# Altium integrated library AhalTech BMS.IntLib: 45 symbols (part 2 of 4)
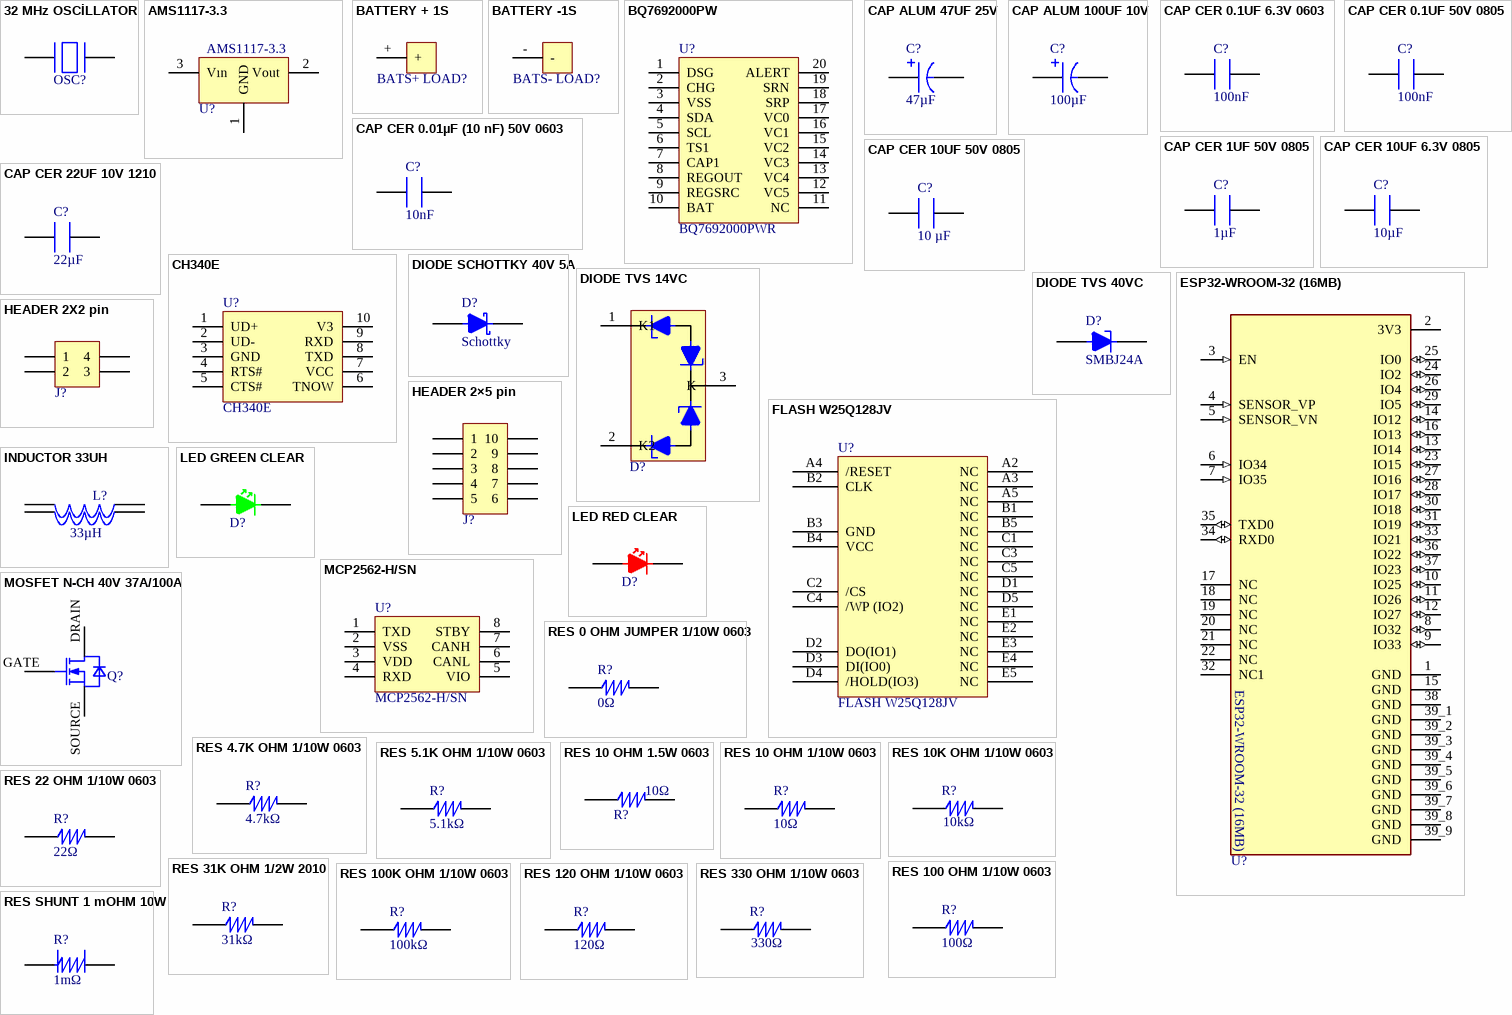
[diagram p2: symbols 32 MHz OSCİLLATOR to RES SHUNT 1 mOHM 10W]

## DIODE TVS 40VC
designator D?, comment SMBJ24A
TVS Diode, SMBJ, Unidirectional, 24 V, 38.9 V, DO-214AA (SMB), 2 Pins; Manufacturer: Bourns; Breakdown Voltage: 28.1V; Clamping Voltage: 38.9V; Element Configuration: Single; ESD Protection: Yes; Leakage Current: 5µA; Max Breakdown Voltage: 29.5V; Max Junction Temperature (Tj): 150°C; Max Power Dissipation: 5W; Max Surge Current: 100A; Min Breakdown Voltage: 26.7V; Number of Channels: 1; Peak Pulse Current: 15.5A; Peak Pulse Power: 600W; Power Line Protection: No; Reverse Standoff Voltage: 24V; Test Current: 1mA; Supplier: Farnell; Supplier Part Number: 1899465; RoHS: Compliant; Category: TVS Diodes; Stock: 35659; Pricing: 5=0,345, 10=0,226, 100=0,11, 500=0,108, 1000=0,103, 5000=0,083 (EUR); Case/Package: SMB; China RoHS: Non-Compliant; Composition: Zener; Direction: Unidirectional; Height: 2.44mm; Length: 4.57mm; Lifecycle Status: Production; Max Operating Temperature: 150°C; Max Reverse Leakage Current: 5µA; Min Operating Temperature: -55°C; Mounting Technology: Surface Mount; Number of Elements: 1; Pins: 2; Number of Terminals: 2; Number of Unidirectional Channels: 1; Packaging: Tape & Reel; Polarity: Unidirectional; Radiation Hardening: No; REACH SVHC: No; Reverse Breakdown Voltage: 26.7V; Schedule B: 8541100080; Termination: SMD/SMT; Width: 3.94mm; ComponentLink1URL: https://datasheet.octopart.com:443/SMBJ24A-Bourns-datasheet-179980059.pdf?src-supplier=TME; ComponentLink1Description: https://datasheet.octopart.com:443/SMBJ24A-Bourns-datasheet-179980059.pdf?src-supplier=TME; ComponentLink2URL: https://datasheet.octopart.com:443/SMBJ24A-Bourns-datasheet-12567566.pdf?src-supplier=Burklin+Elektronik; ComponentLink2Description: https://datasheet.octopart.com:443/SMBJ24A-Bourns-datasheet-12567566.pdf?src-supplier=Burklin+Elektronik; ComponentLink3URL: https://datasheet.octopart.com:443/SMBJ24A-Bourns-datasheet-165058450.pdf?src-supplier=Burklin+Elektronik; ComponentLink3Description: https://datasheet.octopart.com:443/SMBJ24A-Bourns-datasheet-165058450.pdf?src-supplier=Burklin+Elektronik; ComponentLink4URL: https://datasheet.octopart.com:443/SMBJ24A-Bourns-datasheet-94099898.pdf?src-supplier=Farnell; ComponentLink4Description: https://datasheet.octopart.com:443/SMBJ24A-Bourns-datasheet-94099898.pdf?src-supplier=Farnell; ComponentLink5URL: https://datasheet.octopart.com:443/SMBJ24A-Bourns-datasheet-34433208.pdf?src-supplier=Newark; ComponentLink5Description: https://datasheet.octopart.com:443/SMBJ24A-Bourns-datasheet-34433208.pdf?src-supplier=Newark; ComponentLink6URL: https://datasheet.octopart.com:443/SMBJ24A-Bourns-datasheet-154729896.pdf?src-supplier=Electro+Sonic; ComponentLink6Description: https://datasheet.octopart.com:443/SMBJ24A-Bourns-datasheet-154729896.pdf?src-supplier=Electro+Sonic; ComponentLink7URL: https://datasheet.octopart.com:443/SMBJ24A-Bourns-datasheet-42429174.pdf?src-supplier=RS+(Formerly+Allied+Electronics); ComponentLink7Description: https://datasheet.octopart.com:443/SMBJ24A-Bourns-datasheet-42429174.pdf?src-supplier=RS+(Formerly+Allied+Electronics); ComponentLink8URL: https://datasheet.octopart.com:443/SMBJ24A-Bourns-datasheet-10292148.pdf?src-supplier=element14; ComponentLink8Description: https://datasheet.octopart.com:443/SMBJ24A-Bourns-datasheet-10292148.pdf?src-supplier=element14; ComponentLink9URL: https://datasheet.octopart.com:443/SMBJ24A-Bourns-datasheet-14047909.pdf?src-supplier=iiiC; ComponentLink9Description: https://datasheet.octopart.com:443/SMBJ24A-Bourns-datasheet-14047909.pdf?src-supplier=iiiC; ComponentLink10URL: http://sigma.octopart.com:80/conflict_mineral_statement/Bourns-company-36.pdf?src-supplier=Compliance+Statements; ComponentLink10Description: http://sigma.octopart.com:80/conflict_mineral_statement/Bourns-company-36.pdf?src-supplier=Compliance+Statements; Manufacturer Part Number: SMBJ24A
footprint SMBJ24A
pins: 1, 2

## ESP32-WROOM-32 (16MB)
designator U?  (value not drawn)
Bluetooth, WiFi 802.11b/g/n, Bluetooth v4.2 +EDR, Class 1, 2 and 3 Transceiver Module 2.4GHz ~ 2.5GHz Integrated, Chip Surface Mount; Manufacturer: Espressif Systems; Manufacturer Part Number: ESP32-WROOM-32E-N4; Max Supply Voltage: 3.6V; Min Supply Voltage: 3V; Operating Supply Voltage: 3.3V; Supplier: Mouser; Supplier Part Number: 356-ESP32WRM32E132PH; RoHS: Compliant; Category: System on Chip (SoC); Stock: 37962; Pricing: 1=5,59, 1=4,81, 10=5, 10=4,3, 25=3,41, 50=3,96, 100=3,82, 100=3,29, 250=3,17, 650=2,85, 1000=3,31, 1300=2,71, 1950=2,58, 10000=3 (USD); Height - Seated (Max): 3.25mm; Length: 25.5mm; Max Operating Temperature: 85°C; Min Operating Temperature: -40°C; Number of Terminals: 38; Terminal Pitch: 1.27mm; Width: 18mm; ComponentLink1URL: https://datasheet.octopart.com:443/ESP32-WROOM-32E-N4-Espressif-Systems-datasheet-182247776.pdf?src-supplier=IHS; ComponentLink1Description: https://datasheet.octopart.com:443/ESP32-WROOM-32E-N4-Espressif-Systems-datasheet-182247776.pdf?src-supplier=IHS; ComponentLink2URL: https://datasheet.octopart.com:443/ESP32-WROOM-32E-N4-Espressif-Systems-datasheet-188867343.pdf?src-supplier=TME; ComponentLink2Description: https://datasheet.octopart.com:443/ESP32-WROOM-32E-N4-Espressif-Systems-datasheet-188867343.pdf?src-supplier=TME; ComponentLink3URL: https://datasheet.octopart.com:443/ESP32-WROOM-32E-N4-Espressif-Systems-datasheet-165560559.pdf?src-supplier=TME; ComponentLink3Description: https://datasheet.octopart.com:443/ESP32-WROOM-32E-N4-Espressif-Systems-datasheet-165560559.pdf?src-supplier=TME; ComponentLink4URL: https://datasheet.octopart.com:443/ESP32-WROOM-32E-N4-Espressif-Systems-datasheet-151884363.pdf?src-supplier=Future+Electronics; ComponentLink4Description: https://datasheet.octopart.com:443/ESP32-WROOM-32E-N4-Espressif-Systems-datasheet-151884363.pdf?src-supplier=Future+Electronics
footprint ESP32-WROOM-32 (16MB)
pins: 1 GND (power), 2 3V3 (power), 3 EN (in), 4 SENSOR_VP (in), 5 SENSOR_VN (in), 6 IO34 (in), 7 IO35 (in), 8 IO32 (io), 9 IO33 (io), 10 IO25 (io), 11 IO26 (io), 12 IO27 (io), 13 IO14 (io), 14 IO12 (io), 15 GND (power), 16 IO13 (io), 17 NC, 18 NC, 19 NC, 20 NC, 21 NC, 22 NC, 23 IO15 (io), 24 IO2 (io), 25 IO0 (io), 26 IO4 (io), 27 IO16 (io), 28 IO17 (io), 29 IO5 (io), 30 IO18 (io), 31 IO19 (io), 32 NC1, 33 IO21 (io), 34 RXD0 (io), 35 TXD0 (io), 36 IO22 (io), 37 IO23 (io), 38 GND (power), 39_1 GND (power), 39_2 GND (power), 39_3 GND (power), 39_4 GND (power), 39_5 GND (power), 39_6 GND (power), 39_7 GND (power), 39_8 GND (power), 39_9 GND (power)

## FLASH W25Q128JV
designator U?, comment Base Product Number: FLASH W25Q128JV  (hidden comment: W25Q128JVBJM)
FLASH - NOR Memory IC 128Mbit SPI - Quad I/O, QPI, DTR 133 MHz 24-TFBGA (6x8); Memory Type: Non-Volatile; Memory Organization: 16M x 8; Clock Frequency: 133 MHz; Write Cycle Time - Word, Page: 3ms; Voltage - Supply: 2.7V ~ 3.6V; Memory Format: FLASH; Technology: FLASH - NOR; Memory Size: 128Mbit; Memory Interface: SPI - Quad I/O, QPI, DTR; Operating Temperature: -40°C ~ 105°C (TA); Mounting Type: Surface Mount; Package / Case: 24-TBGA; ComponentLink1Description: Datasheet; ComponentLink1URL: https://www.winbond.com/resource-files/w25q128jv_dtr%20revc%2003272018%20plus.pdf; ComponentLink2Description: Supplier Link; ComponentLink2URL: https://www.digikey.com/en/products/detail/winbond-electronics/w25q128jvbjm/9169933
footprint 24-TFBGA (6x8)
pins: A2 NC, A3 NC, A4 /RESET, A5 NC, B1 NC, B2 CLK, B3 GND, B4 VCC, B5 NC, C1 NC, C2 /CS, C3 NC, C4 /WP (IO2), C5 NC, D1 NC, D2 DO(IO1), D3 DI(IO0), D4 /HOLD(IO3), D5 NC, E1 NC, E2 NC, E3 NC, E4 NC, E5 NC

## HEADER 2X2 pin
designator J?, comment TD-102-T-A  (value not drawn)
CONN HEADER VERT 4POS 2.54MM; Manufacturer: Samtec; Manufacturer Lifecycle Status: PRODUCTION; Number of Contacts: 4; Supplier: Farnell; Supplier Part Number: 3687780; Manufacturer Part Number: TD-102-T-A; RoHS: Compliant; Category: Headers and Wire Housings; Pricing: 100=0,565 (EUR); Color: Black; Contact Material: Brass; Contact Mating Length: 4.2164mm; Contact Plating: Tin; Height: 2.54mm; Housing Color: Black; Housing Material: Plastic; Lead Free: Lead Free; Length: 5.08mm; Lifecycle Status: Production; Mounting Technology: Through Hole; Number of Positions: 4; Number of Rows: 2; Packaging: Bulk; Pitch: 2.54mm; Radiation Hardening: No; REACH SVHC: No; Row Spacing: 2.54mm; Termination: Solder; Width: 5.08mm; ComponentLink1URL: https://datasheet.octopart.com:443/TD-102-T-A-Samtec-datasheet-97310231.pdf?src-supplier=Samtec; ComponentLink1Description: https://datasheet.octopart.com:443/TD-102-T-A-Samtec-datasheet-97310231.pdf?src-supplier=Samtec; ComponentLink2URL: https://datasheet.octopart.com:443/TD-102-T-A-Samtec-datasheet-150856305.pdf?src-supplier=Sager+Electronics; ComponentLink2Description: https://datasheet.octopart.com:443/TD-102-T-A-Samtec-datasheet-150856305.pdf?src-supplier=Sager+Electronics; ComponentLink3URL: https://datasheet.octopart.com:443/TD-102-T-A-Samtec-datasheet-129019458.pdf?src-supplier=Sager+Electronics; ComponentLink3Description: https://datasheet.octopart.com:443/TD-102-T-A-Samtec-datasheet-129019458.pdf?src-supplier=Sager+Electronics; ComponentLink4URL: https://datasheet.octopart.com:443/TD-102-T-A-Samtec-datasheet-179090728.pdf?src-supplier=Sager+Electronics; ComponentLink4Description: https://datasheet.octopart.com:443/TD-102-T-A-Samtec-datasheet-179090728.pdf?src-supplier=Sager+Electronics; ComponentLink5URL: https://datasheet.octopart.com:443/TD-102-T-A-Samtec-datasheet-41643126.pdf?src-supplier=Farnell; ComponentLink5Description: https://datasheet.octopart.com:443/TD-102-T-A-Samtec-datasheet-41643126.pdf?src-supplier=Farnell; ComponentLink6URL: https://datasheet.octopart.com:443/TD-102-T-A-Samtec-datasheet-37173861.pdf?src-supplier=Farnell; ComponentLink6Description: https://datasheet.octopart.com:443/TD-102-T-A-Samtec-datasheet-37173861.pdf?src-supplier=Farnell; ComponentLink7URL: https://datasheet.octopart.com:443/TD-102-T-A-Samtec-datasheet-8466599.pdf?src-supplier=Farnell; ComponentLink7Description: https://datasheet.octopart.com:443/TD-102-T-A-Samtec-datasheet-8466599.pdf?src-supplier=Farnell; ComponentLink8URL: https://datasheet.octopart.com:443/TD-102-T-A-Samtec-datasheet-21214653.pdf?src-supplier=Newark; ComponentLink8Description: https://datasheet.octopart.com:443/TD-102-T-A-Samtec-datasheet-21214653.pdf?src-supplier=Newark
footprint TD-102-T-A
pins: 01 1, 02 2, 03 3, 04 4

## HEADER 2×5 pin
designator J?, comment TD-105-T-A  (value not drawn)
Pin Header, Precision Machined Terminal, Board-to-Board, 2.54 mm, 2 Rows, 10 Contacts, Through Hole; Manufacturer: Samtec; Manufacturer Lifecycle Status: PRODUCTION; Connector Type: Socket; Gender: Receptacle; Number of Contacts: 10; Pitch: 2.54mm; Supplier: Arrow Electronics; Supplier Part Number: TD-105-T-A; Manufacturer Part Number: TD-105-T-A; RoHS: Compliant; Category: Headers and Wire Housings; Pricing: 1=1,88, 50=1,46, 100=1,18, 500=1, 1000=0,79, 2000=0,73, 5000=0,59, 10000=0,45 (USD); Color: Black; Contact Material: Brass; Contact Mating Length: 4.2164mm; Contact Plating: Tin; Height: 2.54mm; Housing Color: Black; Housing Material: Plastic; Lead Free: Lead Free; Length: 12.7mm; Lifecycle Status: Production; Mounting Technology: Through Hole; Number of Positions: 10; Number of Rows: 2; Packaging: Bulk; Radiation Hardening: No; REACH SVHC: No; Row Spacing: 2.54mm; Termination: Solder; Width: 5.08mm; ComponentLink1URL: https://datasheet.octopart.com:443/TD-105-T-A-Samtec-datasheet-97310231.pdf?src-supplier=Sager+Electronics; ComponentLink1Description: https://datasheet.octopart.com:443/TD-105-T-A-Samtec-datasheet-97310231.pdf?src-supplier=Sager+Electronics; ComponentLink2URL: https://datasheet.octopart.com:443/TD-105-T-A-Samtec-datasheet-150856305.pdf?src-supplier=Sager+Electronics; ComponentLink2Description: https://datasheet.octopart.com:443/TD-105-T-A-Samtec-datasheet-150856305.pdf?src-supplier=Sager+Electronics; ComponentLink3URL: https://datasheet.octopart.com:443/TD-105-T-A-Samtec-datasheet-179090728.pdf?src-supplier=Sager+Electronics; ComponentLink3Description: https://datasheet.octopart.com:443/TD-105-T-A-Samtec-datasheet-179090728.pdf?src-supplier=Sager+Electronics; ComponentLink4URL: https://datasheet.octopart.com:443/TD-105-T-A-Samtec-datasheet-129019458.pdf?src-supplier=Electro+Sonic; ComponentLink4Description: https://datasheet.octopart.com:443/TD-105-T-A-Samtec-datasheet-129019458.pdf?src-supplier=Electro+Sonic; ComponentLink5URL: https://datasheet.octopart.com:443/TD-105-T-A-Samtec-datasheet-41643126.pdf?src-supplier=Farnell; ComponentLink5Description: https://datasheet.octopart.com:443/TD-105-T-A-Samtec-datasheet-41643126.pdf?src-supplier=Farnell; ComponentLink6URL: https://datasheet.octopart.com:443/TD-105-T-A-Samtec-datasheet-37173861.pdf?src-supplier=Farnell; ComponentLink6Description: https://datasheet.octopart.com:443/TD-105-T-A-Samtec-datasheet-37173861.pdf?src-supplier=Farnell; ComponentLink7URL: https://datasheet.octopart.com:443/TD-105-T-A-Samtec-datasheet-8466599.pdf?src-supplier=Farnell; ComponentLink7Description: https://datasheet.octopart.com:443/TD-105-T-A-Samtec-datasheet-8466599.pdf?src-supplier=Farnell; ComponentLink8URL: https://datasheet.octopart.com:443/TD-105-T-A-Samtec-datasheet-175953447.pdf?src-supplier=JRH+Electronics; ComponentLink8Description: https://datasheet.octopart.com:443/TD-105-T-A-Samtec-datasheet-175953447.pdf?src-supplier=JRH+Electronics; ComponentLink9URL: https://datasheet.octopart.com:443/TD-105-T-A-Samtec-datasheet-116539057.pdf?src-supplier=Toby+Electronics; ComponentLink9Description: https://datasheet.octopart.com:443/TD-105-T-A-Samtec-datasheet-116539057.pdf?src-supplier=Toby+Electronics; ComponentLink10URL: https://datasheet.octopart.com:443/TD-105-T-A-Samtec-datasheet-116536282.pdf?src-supplier=Toby+Electronics; ComponentLink10Description: https://datasheet.octopart.com:443/TD-105-T-A-Samtec-datasheet-116536282.pdf?src-supplier=Toby+Electronics; ComponentLink11URL: https://datasheet.octopart.com:443/TD-105-T-A-Samtec-datasheet-21214653.pdf?src-supplier=Newark; ComponentLink11Description: https://datasheet.octopart.com:443/TD-105-T-A-Samtec-datasheet-21214653.pdf?src-supplier=Newark
footprint TD-105-T-A
pins: 1, 2, 3, 4, 5, 6, 7, 8, 9, 10

## INDUCTOR 33UH
designator L?, comment value 33µH  (hidden comment: SRF0703-330M)
INDUCT ARRAY 2 COIL 33UH SMD; Manufacturer: Bourns; Core Material: Ferrite; Current: 653mA; DC Resistance (DCR): 240mΩ; Inductance - Series: 132µH; Inductance Tolerance: 20%; Max Current Rating: 1.31A; Number of Circuits: 2; Self Resonant Frequency: 100kHz; Shielding: Yes; Supplier: Arrow Electronics; Supplier Part Number: SRF0703-330M; Manufacturer Part Number: SRF0703-330M; RoHS: Compliant; Category: Fixed Inductors; Stock: 70; Pricing: 70=0,3829 (USD); Case/Package: 3030; China RoHS: Compliant; Depth: 7.6mm; Height: 3.4mm; Inductance - Parallel: 33µH; Length: 7.6mm; Lifecycle Status: Production; Max DC Current: 1.31A; Max Operating Temperature: 125°C; Military Standard: Not; Min Operating Temperature: -40°C; Mounting Technology: Surface Mount; Number of Coils: 2; Pins: 4; Number of Terminals: 4; Packaging: Cut Tape; REACH SVHC: Yes; RMS Current (Irms): 1.31A; Schedule B: 8504500000, 8504500000|8504500000|8504500000|8504500000|8504500000; Termination: SMD/SMT; Test Frequency: 100kHz; Tolerance: 20%; Width: 7.6mm; ComponentLink1URL: https://datasheet.octopart.com:443/SRF0703-330M-Bourns-datasheet-166810714.pdf?src-supplier=IHS; ComponentLink1Description: https://datasheet.octopart.com:443/SRF0703-330M-Bourns-datasheet-166810714.pdf?src-supplier=IHS; ComponentLink2URL: https://datasheet.octopart.com:443/SRF0703-330M-Bourns-datasheet-13693259.pdf?src-supplier=element14+APAC; ComponentLink2Description: https://datasheet.octopart.com:443/SRF0703-330M-Bourns-datasheet-13693259.pdf?src-supplier=element14+APAC; ComponentLink3URL: https://datasheet.octopart.com:443/SRF0703-330M-Bourns-datasheet-154729902.pdf?src-supplier=Electro+Sonic; ComponentLink3Description: https://datasheet.octopart.com:443/SRF0703-330M-Bourns-datasheet-154729902.pdf?src-supplier=Electro+Sonic; ComponentLink4URL: https://datasheet.octopart.com:443/SRF0703-330M-Bourns-datasheet-159777445.pdf?src-supplier=RS+(Formerly+Allied+Electronics); ComponentLink4Description: https://datasheet.octopart.com:443/SRF0703-330M-Bourns-datasheet-159777445.pdf?src-supplier=RS+(Formerly+Allied+Electronics); ComponentLink5URL: https://datasheet.octopart.com:443/SRF0703-330M-Bourns-datasheet-10413855.pdf?src-supplier=Newark; ComponentLink5Description: https://datasheet.octopart.com:443/SRF0703-330M-Bourns-datasheet-10413855.pdf?src-supplier=Newark; ComponentLink6URL: https://datasheet.octopart.com:443/SRF0703-330M-Bourns-datasheet-10025696.pdf?src-supplier=Farnell; ComponentLink6Description: https://datasheet.octopart.com:443/SRF0703-330M-Bourns-datasheet-10025696.pdf?src-supplier=Farnell; ComponentLink7URL: http://sigma.octopart.com:80/conflict_mineral_statement/Bourns-company-36.pdf?src-supplier=Compliance+Statements; ComponentLink7Description: http://sigma.octopart.com:80/conflict_mineral_statement/Bourns-company-36.pdf?src-supplier=Compliance+Statements
footprint SRF0703 Series INDUCTOR
pins: 1, 2, 3, 3

## LED GREEN CLEAR
designator D?, comment LTST-C190GKT  (value not drawn)
LED Uni-Color Green 565nm 2-Pin Chip LED T/R; Manufacturer: Lite-On; Current: 1A; Dominant Wavelength: 569nm; Forward Current: 30mA; Forward Voltage: 2.6V; Lens Color: Clear, Colorless; Lens Style: Clear; Luminous Intensity: 1.8mcd; Number of Circuits: 1; Power Dissipation: 100mW; Reverse Voltage: 5V; Shape: Rectangular; Test Current: 10mA; Viewing Angle: 130°; Voltage: 2V; Supplier: Arrow Electronics; Supplier Part Number: LTST-C190GKT; Manufacturer Part Number: LTST-C190GKT; RoHS: Compliant; Category: LEDs; Stock: 3055; Pricing: 1=0,12, 10=0,081, 25=0,08, 100=0,056, 250=0,055, 500=0,044, 1000=0,036, 3000=0,025 (USD); Case/Package: 0603; Case Code (Imperial): 0603; Case Code (Metric): 1608; China RoHS: Compliant; Color: Green; Contact Plating: Tin; Depth: 800µm; Height: 800µm; Illumination Color: Green; Lead Free: Lead Free; Length: 1.6mm; Lens Transparency: Clear; Lifecycle Status: NRND; Max Operating Temperature: 85°C; Min Operating Temperature: -55°C; Mounting Technology: Surface Mount; Number of Elements: 1; Number of LEDs: 1; Pins: 2; Number of Terminals: 2; Peak Wavelength: 565nm; Power Rating: 100mW; Radiation Hardening: No; REACH SVHC: Yes; Schedule B: 8541402000, 8541402000|8541402000|8541402000|8541402000|8541402000; Terminal Pitch: 1.5mm; Wavelength: 569nm; Width: 800µm; ComponentLink1URL: https://datasheet.octopart.com:443/LTST-C190GKT-Lite-On-datasheet-66499085.pdf?src-supplier=IHS; ComponentLink1Description: https://datasheet.octopart.com:443/LTST-C190GKT-Lite-On-datasheet-66499085.pdf?src-supplier=IHS; ComponentLink2URL: https://datasheet.octopart.com:443/LTST-C190GKT-Lite-On-datasheet-158530.pdf?src-supplier=Electro+Sonic; ComponentLink2Description: https://datasheet.octopart.com:443/LTST-C190GKT-Lite-On-datasheet-158530.pdf?src-supplier=Electro+Sonic; ComponentLink3URL: https://datasheet.octopart.com:443/LTST-C190GKT-Lite-On-datasheet-87079182.pdf?src-supplier=Upverter; ComponentLink3Description: https://datasheet.octopart.com:443/LTST-C190GKT-Lite-On-datasheet-87079182.pdf?src-supplier=Upverter; ComponentLink4URL: https://datasheet.octopart.com:443/LTST-C190GKT-Lite-On-datasheet-7279162.pdf?src-supplier=Future+Electronics; ComponentLink4Description: https://datasheet.octopart.com:443/LTST-C190GKT-Lite-On-datasheet-7279162.pdf?src-supplier=Future+Electronics; ComponentLink5URL: https://datasheet.octopart.com:443/LTST-C190GKT-Lite-On-datasheet-86397319.pdf?src-supplier=Future+Electronics; ComponentLink5Description: https://datasheet.octopart.com:443/LTST-C190GKT-Lite-On-datasheet-86397319.pdf?src-supplier=Future+Electronics; ComponentLink6URL: https://datasheet.octopart.com:443/LTST-C190GKT-Lite-On-datasheet-93383.pdf?src-supplier=DigiKey; ComponentLink6Description: https://datasheet.octopart.com:443/LTST-C190GKT-Lite-On-datasheet-93383.pdf?src-supplier=DigiKey; ComponentLink7URL: https://datasheet.octopart.com:443/LTST-C190GKT-Lite-On-datasheet-14174996.pdf?src-supplier=iiiC; ComponentLink7Description: https://datasheet.octopart.com:443/LTST-C190GKT-Lite-On-datasheet-14174996.pdf?src-supplier=iiiC; ComponentLink8URL: https://datasheet.octopart.com:443/LTST-C190GKT-Lite-On-datasheet-62340971.pdf?src-supplier=TME; ComponentLink8Description: https://datasheet.octopart.com:443/LTST-C190GKT-Lite-On-datasheet-62340971.pdf?src-supplier=TME
footprint LED 0603
pins: 1, 2

## LED RED CLEAR
designator D?, comment LTST-C190KRKT  (value not drawn)
Red 631nm LED Indication - Discrete 2V 0603 (1608 Metric); Manufacturer: Lite-On; Value: 100µF; Forward Current: 25mA; Forward Voltage: 2.4V; Lens Color: Clear, Colorless; Lens Style: Clear; Luminous Intensity: 18mcd; Number of Circuits: 1; Peak Wavelength: 639nm; Power Dissipation: 62.5mW; Power Rating: 75mW; Reverse Voltage: 5V; Shape: Rectangular; Test Current: 20mA; Tolerance: 20%; Viewing Angle: 260°; Voltage Rating: 50V; Supplier: Future Electronics; Supplier Part Number: 5050042; Manufacturer Part Number: LTST-C190KRKT; RoHS: Compliant; Category: LEDs; Stock: 1444000; Pricing: 4000=0,0152, 12000=0,0149, 20000=0,0147, 60000=0,0144, 100000=0,014 (USD); Case/Package: 0603; Case Code (Imperial): 0603; Case Code (Metric): 1608; China RoHS: Compliant; Color: Red; Depth: 800µm; Diameter: 8mm; Dominant Wavelength: 631nm; Height: 800µm; Illumination Color: Red; Lead Free: Lead Free; Lead Pitch: 3.5mm; Length: 11.5mm; Lens Transparency: Clear; Lifecycle Status: Production; Max Operating Temperature: 85°C; Min Operating Temperature: -30°C; Mounting Technology: Surface Mount; Number of Elements: 1; Number of LEDs: 1; Pins: 2; Number of Terminals: 2; Packaging: Bulk; Radiation Hardening: No; REACH SVHC: Yes; Schedule B: 8541402000, 8541402000|8541402000, 8541402000|8541402000|8541402000, 8541402000|8541402000|8541402000|8541402000; Voltage Rating (DC): 50V; Wavelength: 631nm; Width: 800µm; ComponentLink1URL: https://datasheet.octopart.com:443/LTST-C190KRKT-Lite-On-datasheet-32047000.pdf?src-supplier=Upverter; ComponentLink1Description: https://datasheet.octopart.com:443/LTST-C190KRKT-Lite-On-datasheet-32047000.pdf?src-supplier=Upverter; ComponentLink2URL: https://datasheet.octopart.com:443/LTST-C190KRKT-Lite-On-datasheet-114749306.pdf?src-supplier=ODG+(Origin+Data+Global); ComponentLink2Description: https://datasheet.octopart.com:443/LTST-C190KRKT-Lite-On-datasheet-114749306.pdf?src-supplier=ODG+(Origin+Data+Global); ComponentLink3URL: https://datasheet.octopart.com:443/LTST-C190KRKT-Lite-On-datasheet-166650849.pdf?src-supplier=IHS; ComponentLink3Description: https://datasheet.octopart.com:443/LTST-C190KRKT-Lite-On-datasheet-166650849.pdf?src-supplier=IHS; ComponentLink4URL: https://datasheet.octopart.com:443/LTST-C190KRKT-Lite-On-datasheet-158191.pdf?src-supplier=_legacy+Avnet; ComponentLink4Description: https://datasheet.octopart.com:443/LTST-C190KRKT-Lite-On-datasheet-158191.pdf?src-supplier=_legacy+Avnet; ComponentLink5URL: https://datasheet.octopart.com:443/LTST-C190KRKT-Lite-On-datasheet-165573809.pdf?src-supplier=TME; ComponentLink5Description: https://datasheet.octopart.com:443/LTST-C190KRKT-Lite-On-datasheet-165573809.pdf?src-supplier=TME; ComponentLink6URL: https://datasheet.octopart.com:443/LTST-C190KRKT-Lite-On-datasheet-165573808.pdf?src-supplier=TME; ComponentLink6Description: https://datasheet.octopart.com:443/LTST-C190KRKT-Lite-On-datasheet-165573808.pdf?src-supplier=TME; ComponentLink7URL: https://datasheet.octopart.com:443/LTST-C190KRKT-Lite-On-datasheet-12557188.pdf?src-supplier=Future+Electronics; ComponentLink7Description: https://datasheet.octopart.com:443/LTST-C190KRKT-Lite-On-datasheet-12557188.pdf?src-supplier=Future+Electronics; ComponentLink8URL: https://datasheet.octopart.com:443/LTST-C190KRKT-Lite-On-datasheet-8329900.pdf?src-supplier=Future+Electronics; ComponentLink8Description: https://datasheet.octopart.com:443/LTST-C190KRKT-Lite-On-datasheet-8329900.pdf?src-supplier=Future+Electronics; ComponentLink9URL: https://datasheet.octopart.com:443/LTST-C190KRKT-Lite-On-datasheet-8319956.pdf?src-supplier=Jameco; ComponentLink9Description: https://datasheet.octopart.com:443/LTST-C190KRKT-Lite-On-datasheet-8319956.pdf?src-supplier=Jameco; ComponentLink10URL: https://datasheet.octopart.com:443/LTST-C190KRKT-Lite-On-datasheet-94958.pdf?src-supplier=DigiKey; ComponentLink10Description: https://datasheet.octopart.com:443/LTST-C190KRKT-Lite-On-datasheet-94958.pdf?src-supplier=DigiKey
footprint LED 0603
pins: 1, 2

## MCP2562-H/SN
designator U?
1/1 Transceiver Half CANbus 8-SOIC; Manufacturer: Microchip; Data Rate: 1Mbps; Interface: CAN; Max Junction Temperature (Tj): 190°C; Max Supply Voltage: 5.5V; Min Supply Voltage: 1.8V; Nominal Supply Current: 70mA; Number of Transceivers: 1; Propagation Delay: 125ns; Supplier: Arrow Electronics; Manufacturer Part Number: MCP2562-H/SN; RoHS: Compliant; Category: CAN Transceivers; Stock: 200; Pricing: 200=0,9808 (USD); Projected EOL Date: 2039-03-19; Ambient Temperature Range High: 150°C; Case/Package: SOIC; Country of Assembly: Thailand; Country of Fabrication: Taiwan; Country of Origin: Thailand; Export Control Classification Number (ECCN) Code: EAR99; Height: 1.75mm; Harmonized Tariff Schedule (HTS) Code: 8542.39.0060; Introduction Date: 2013-03-19; Lead Free: Lead Free; Lifecycle Status: Production; Max Operating Temperature: 150°C; Min Operating Temperature: -40°C; Mounting Technology: Surface Mount; Pins: 8; Radiation Hardening: No; Schedule B: 8529906000; Turn-On Delay Time: 125ns; ComponentLink1URL: https://datasheet.octopart.com:443/MCP2562-H-SN-Microchip-datasheet-38190264.pdf?src-supplier=Microchip; ComponentLink1Description: https://datasheet.octopart.com:443/MCP2562-H-SN-Microchip-datasheet-38190264.pdf?src-supplier=Microchip; ComponentLink2URL: https://datasheet.octopart.com/MCP2562-H-SN-Microchip-datasheet-15670463.pdf; ComponentLink2Description: https://datasheet.octopart.com/MCP2562-H-SN-Microchip-datasheet-15670463.pdf; ComponentLink3URL: http://sigma.octopart.com:80/188449173/materials_sheet/Microchip-MCP2562-H-SN.pdf?src-supplier=Compliance+Statements; ComponentLink3Description: http://sigma.octopart.com:80/188449173/materials_sheet/Microchip-MCP2562-H-SN.pdf?src-supplier=Compliance+Statements; ComponentLink4URL: http://sigma.octopart.com:80/conflict_mineral_statement/Microchip-company-69.pdf?src-supplier=Compliance+Statements; ComponentLink4Description: http://sigma.octopart.com:80/conflict_mineral_statement/Microchip-company-69.pdf?src-supplier=Compliance+Statements; ComponentLink5URL: http://sigma.octopart.com:80/conflict_mineral_statement/Microchip-company-68.pdf?src-supplier=Compliance+Statements; ComponentLink5Description: http://sigma.octopart.com:80/conflict_mineral_statement/Microchip-company-68.pdf?src-supplier=Compliance+Statements; ComponentLink6URL: http://sigma.octopart.com:80/reach_statement/Microchip-company-70.pdf?src-supplier=Compliance+Statements; ComponentLink6Description: http://sigma.octopart.com:80/reach_statement/Microchip-company-70.pdf?src-supplier=Compliance+Statements; ComponentLink7URL: http://sigma.octopart.com:80/rohs_statement/Microchip-company-71.pdf?src-supplier=Compliance+Statements; ComponentLink7Description: http://sigma.octopart.com:80/rohs_statement/Microchip-company-71.pdf?src-supplier=Compliance+Statements; Supplier Part Number: MCP2562-H/SN
footprint 8-SOIC
pins: 1 TXD, 2 VSS, 3 VDD, 4 RXD, 5 VIO, 6 CANL, 7 CANH, 8 STBY

## MOSFET N-CH 40V 37A/100A
designator Q?, comment BSC010N04LSIATMA1  (value not drawn)
N-Channel 40 V 37A (Ta), 100A (Tc) 2.5W (Ta), 139W (Tc) Surface Mount PG-TDSON-8 FL; Manufacturer: Infineon; Drain to Source Breakdown Voltage: 40V; Drain to Source Resistance: 1.4mΩ; Fall Time: 17ns; Gate to Source Voltage (Vgs): 20V; Input Capacitance: 6.2nF; Max Junction Temperature (Tj): 150°C; Number of Channels: 1; On-State Resistance: 1.05mΩ; Rise Time: 48ns; Turn-Off Delay Time: 33ns; Turn-On Delay Time: 9ns; Supplier: Farnell; Supplier Part Number: 2725801; Manufacturer Part Number: BSC010N04LSIATMA1; RoHS: Compliant; Category: MOSFETs; Stock: 11576; Pricing: 1=1,27, 10=1,13, 100=1,12, 500=0,92, 1000=0,818 (EUR); China RoHS: Non-Compliant; Continuous Drain Current (ID): 37A; Drain to Source Voltage (Vdss): 40V; Halogen Free: Halogen Free; Height: 1.1mm; Lead Free: Contains Lead; Lifecycle Status: Production; Max Dual Supply Voltage: 40V; Max Operating Temperature: 150°C; Max Power Dissipation: 139W; Min Breakdown Voltage: 40V; Min Operating Temperature: -55°C; Mounting Technology: Surface Mount; Number of Elements: 1; Pins: 8; Number of Terminals: 8; Package Quantity: 5000; Packaging: Tape & Reel; Power Dissipation: 2.5W; Rds On Max: 1.05mΩ; REACH SVHC: No; Schedule B: 8541290080, 8541290080|8541290080|8541290080|8541290080|8541290080|8541290080|8541290080|8541290080|8541290080|8541290080|8541290080|8541290080|8541290080|8541290080|8541290080|8541290080|8541290080|8541290080|8541290080|8541290080|8541290080|8541290080|8541290080|85; ComponentLink1URL: https://datasheet.octopart.com:443/BSC010N04LSIATMA1-Infineon-datasheet-82520598.pdf?src-supplier=ODG+(Origin+Data+Global); ComponentLink1Description: https://datasheet.octopart.com:443/BSC010N04LSIATMA1-Infineon-datasheet-82520598.pdf?src-supplier=ODG+(Origin+Data+Global); ComponentLink2URL: https://datasheet.octopart.com:443/BSC010N04LSIATMA1-Infineon-datasheet-62293607.pdf?src-supplier=TME; ComponentLink2Description: https://datasheet.octopart.com:443/BSC010N04LSIATMA1-Infineon-datasheet-62293607.pdf?src-supplier=TME; ComponentLink3URL: http://sigma.octopart.com:80/conflict_mineral_statement/Infineon-company-51.pdf?src-supplier=Compliance+Statements; ComponentLink3Description: http://sigma.octopart.com:80/conflict_mineral_statement/Infineon-company-51.pdf?src-supplier=Compliance+Statements
footprint 8-PowerTDFN
pins: DRAIN, GATE, SOURCE

## RES 0 OHM JUMPER 1/10W 0603
designator R?, comment value 0Ω  (hidden comment: RMCF0603ZT0R00)
RES 0 OHM JUMPER 1/10W 0603 Chip Resistor 0603 (1608 Metric) Automotive AEC-Q200 Thick Film; Manufacturer: Stackpole Electronics; Current Rating: 1A; Max Power Dissipation: 100mW; Voltage Rating: 75V; Supplier: Arrow Electronics; Supplier Part Number: RMCF0603ZT0R00; Manufacturer Part Number: RMCF0603ZT0R00; RoHS: Compliant; Category: Chip SMD Resistors; Stock: 1355000; Pricing: 55000=0,0014 (USD); Case/Package: 0603; Case Code (Imperial): 0603; Case Code (Metric): 1608; China RoHS: Non-Compliant; Composition: Thick Film; Contact Plating: Tin; Depth: 800µm; Features: Automotive AEC-Q200; Height: 450µm; Lead Free: Lead Free; Length: 1.55mm; Lifecycle Status: Production; Max Operating Temperature: 155°C; Military Standard: Not; Min Operating Temperature: -55°C; Mounting Technology: Surface Mount; Number of Terminals: 2; Number of Terminations: 2; Packaging: Cut Tape (CT); Power Dissipation: 100mW; Power Rating: 100mW; Radiation Hardening: No; REACH SVHC: Yes; Schedule B: 8533210045, 8533210045|8533210045, 8533210045|8533210045|8533210045, 8533210045|8533210045|8533210045|8533210045; Width: 800µm; Working Voltage: 75V; ComponentLink1URL: https://datasheet.octopart.com:443/RMCF0603ZT0R00-Stackpole-Electronics-datasheet-182148075.pdf?src-supplier=IHS; ComponentLink1Description: https://datasheet.octopart.com:443/RMCF0603ZT0R00-Stackpole-Electronics-datasheet-182148075.pdf?src-supplier=IHS; ComponentLink2URL: https://datasheet.octopart.com:443/RMCF0603ZT0R00-Stackpole-Electronics-datasheet-141193804.pdf?src-supplier=Stackpole+Electronics; ComponentLink2Description: https://datasheet.octopart.com:443/RMCF0603ZT0R00-Stackpole-Electronics-datasheet-141193804.pdf?src-supplier=Stackpole+Electronics; ComponentLink3URL: https://datasheet.octopart.com:443/RMCF0603ZT0R00-Stackpole-Electronics-datasheet-62091608.pdf?src-supplier=Stackpole+Electronics; ComponentLink3Description: https://datasheet.octopart.com:443/RMCF0603ZT0R00-Stackpole-Electronics-datasheet-62091608.pdf?src-supplier=Stackpole+Electronics; ComponentLink4URL: https://datasheet.octopart.com:443/RMCF0603ZT0R00-Stackpole-Electronics-datasheet-12534581.pdf?src-supplier=Stackpole+Electronics; ComponentLink4Description: https://datasheet.octopart.com:443/RMCF0603ZT0R00-Stackpole-Electronics-datasheet-12534581.pdf?src-supplier=Stackpole+Electronics; ComponentLink5URL: https://datasheet.octopart.com:443/RMCF0603ZT0R00-Stackpole-Electronics-datasheet-10788263.pdf?src-supplier=Stackpole+Electronics; ComponentLink5Description: https://datasheet.octopart.com:443/RMCF0603ZT0R00-Stackpole-Electronics-datasheet-10788263.pdf?src-supplier=Stackpole+Electronics; ComponentLink6URL: https://datasheet.octopart.com:443/RMCF0603ZT0R00-Stackpole-Electronics-datasheet-28504820.pdf?src-supplier=Upverter; ComponentLink6Description: https://datasheet.octopart.com:443/RMCF0603ZT0R00-Stackpole-Electronics-datasheet-28504820.pdf?src-supplier=Upverter; ComponentLink7URL: https://datasheet.octopart.com:443/RMCF0603ZT0R00-Stackpole-Electronics-datasheet-116606903.pdf?src-supplier=Upverter; ComponentLink7Description: https://datasheet.octopart.com:443/RMCF0603ZT0R00-Stackpole-Electronics-datasheet-116606903.pdf?src-supplier=Upverter; ComponentLink8URL: https://datasheet.octopart.com:443/RMCF0603ZT0R00-Stackpole-Electronics-datasheet-154799224.pdf?src-supplier=Master+Electronics; ComponentLink8Description: https://datasheet.octopart.com:443/RMCF0603ZT0R00-Stackpole-Electronics-datasheet-154799224.pdf?src-supplier=Master+Electronics; ComponentLink9URL: https://datasheet.octopart.com:443/RMCF0603ZT0R00-Stackpole-Electronics-datasheet-11546843.pdf?src-supplier=Arrow+Electronics; ComponentLink9Description: https://datasheet.octopart.com:443/RMCF0603ZT0R00-Stackpole-Electronics-datasheet-11546843.pdf?src-supplier=Arrow+Electronics; ComponentLink10URL: https://datasheet.octopart.com:443/RMCF0603ZT0R00-Stackpole-Electronics-datasheet-11547379.pdf?src-supplier=Future+Electronics; ComponentLink10Description: https://datasheet.octopart.com:443/RMCF0603ZT0R00-Stackpole-Electronics-datasheet-11547379.pdf?src-supplier=Future+Electronics; ComponentLink11URL: https://datasheet.octopart.com:443/RMCF0603ZT0R00-Stackpole-Electronics-datasheet-8359789.pdf?src-supplier=Future+Electronics; ComponentLink11Description: https://datasheet.octopart.com:443/RMCF0603ZT0R00-Stackpole-Electronics-datasheet-8359789.pdf?src-supplier=Future+Electronics; ComponentLink12URL: https://datasheet.octopart.com:443/RMCF0603ZT0R00-Stackpole-Electronics-datasheet-8324226.pdf?src-supplier=Future+Electronics; ComponentLink12Description: https://datasheet.octopart.com:443/RMCF0603ZT0R00-Stackpole-Electronics-datasheet-8324226.pdf?src-supplier=Future+Electronics; ComponentLink13URL: http://sigma.octopart.com:80/15940719/materials_sheet/Stackpole-Electronics-RMCF0603ZT0R00.pdf?src-supplier=Compliance+Statements; ComponentLink13Description: http://sigma.octopart.com:80/15940719/materials_sheet/Stackpole-Electronics-RMCF0603ZT0R00.pdf?src-supplier=Compliance+Statements; ComponentLink14URL: http://sigma.octopart.com:80/141158211/reach_statement/Stackpole-Electronics-RMCF0603ZT0R00.pdf?src-supplier=Compliance+Statements; ComponentLink14Description: http://sigma.octopart.com:80/141158211/reach_statement/Stackpole-Electronics-RMCF0603ZT0R00.pdf?src-supplier=Compliance+Statements; ComponentLink15URL: http://sigma.octopart.com:80/141158212/rohs_statement/Stackpole-Electronics-RMCF0603ZT0R00.pdf?src-supplier=Compliance+Statements; ComponentLink15Description: http://sigma.octopart.com:80/141158212/rohs_statement/Stackpole-Electronics-RMCF0603ZT0R00.pdf?src-supplier=Compliance+Statements
footprint RES 0603
pins: 1, 2

## RES 4.7K OHM 1/10W 0603
designator R?, comment value 4.7kΩ  (hidden comment: ERA-3AEB472V)
Res Thin Film 0603 4.7K Ohm 0.1% 0.1W ±25ppm/°C Molded SMD Punched Carrier T/R; Manufacturer: Panasonic; Manufacturer Part Number: ERA-3AEB473V; Max Power Dissipation: 100mW; Voltage Rating: 75V; Supplier: Arrow Electronics; Supplier Part Number: ERA-3AEB473V; RoHS: Compliant; Category: Chip SMD Resistors; Stock: 25000; Pricing: 5000=0,0337, 10000=0,032, 15000=0,031, 20000=0,031, 25000=0,03 (USD); Case/Package: 0603; Case Code (Imperial): 0603; Composition: Thin Film; Contact Plating: Tin; Depth: 800µm; Features: Automotive AEC-Q200; Height: 450µm; Lead Free: Lead Free; Length: 1.6mm; Lifecycle Status: Production; Max Operating Temperature: 155°C; Military Standard: Not; Min Operating Temperature: -55°C; Mounting Technology: Surface Mount; Pins: 2; Number of Terminals: 2; Number of Terminations: 2; Packaging: Cut Tape; Power Dissipation: 100mW; Power Rating: 100mW; Radiation Hardening: No; REACH SVHC: Yes; Schedule B: 8533210045, 8533210045|8533210045|8533210045|8533210045|8533210045; Temperature Coefficient: 25ppm/°C; Termination: SMD/SMT; Tolerance: 0.1%; Voltage Rating (DC): 75V; Width: 800µm; Working Voltage: 75V; ComponentLink1URL: https://datasheet.octopart.com:443/ERA-3AEB473V-Panasonic-datasheet-62287448.pdf?src-supplier=Newark; ComponentLink1Description: https://datasheet.octopart.com:443/ERA-3AEB473V-Panasonic-datasheet-62287448.pdf?src-supplier=Newark; ComponentLink2URL: https://datasheet.octopart.com:443/ERA-3AEB473V-Panasonic-datasheet-136531316.pdf?src-supplier=Newark; ComponentLink2Description: https://datasheet.octopart.com:443/ERA-3AEB473V-Panasonic-datasheet-136531316.pdf?src-supplier=Newark; ComponentLink3URL: https://datasheet.octopart.com:443/ERA-3AEB473V-Panasonic-datasheet-8367715.pdf?src-supplier=Newark; ComponentLink3Description: https://datasheet.octopart.com:443/ERA-3AEB473V-Panasonic-datasheet-8367715.pdf?src-supplier=Newark; ComponentLink4URL: https://datasheet.octopart.com:443/ERA-3AEB473V-Panasonic-datasheet-61114971.pdf?src-supplier=Newark; ComponentLink4Description: https://datasheet.octopart.com:443/ERA-3AEB473V-Panasonic-datasheet-61114971.pdf?src-supplier=Newark; ComponentLink5URL: https://datasheet.octopart.com:443/ERA-3AEB473V-Panasonic-datasheet-13266200.pdf?src-supplier=_legacy+Avnet; ComponentLink5Description: https://datasheet.octopart.com:443/ERA-3AEB473V-Panasonic-datasheet-13266200.pdf?src-supplier=_legacy+Avnet; ComponentLink6URL: https://datasheet.octopart.com:443/ERA-3AEB473V-Panasonic-datasheet-118567.pdf?src-supplier=element14; ComponentLink6Description: https://datasheet.octopart.com:443/ERA-3AEB473V-Panasonic-datasheet-118567.pdf?src-supplier=element14; ComponentLink7URL: https://datasheet.octopart.com:443/ERA-3AEB473V-Panasonic-datasheet-154766165.pdf?src-supplier=Master+Electronics; ComponentLink7Description: https://datasheet.octopart.com:443/ERA-3AEB473V-Panasonic-datasheet-154766165.pdf?src-supplier=Master+Electronics; ComponentLink8URL: https://datasheet.octopart.com:443/ERA-3AEB473V-Panasonic-datasheet-12510007.pdf?src-supplier=Future+Electronics; ComponentLink8Description: https://datasheet.octopart.com:443/ERA-3AEB473V-Panasonic-datasheet-12510007.pdf?src-supplier=Future+Electronics; ComponentLink9URL: https://datasheet.octopart.com:443/ERA-3AEB473V-Panasonic-datasheet-11763931.pdf?src-supplier=Future+Electronics; ComponentLink9Description: https://datasheet.octopart.com:443/ERA-3AEB473V-Panasonic-datasheet-11763931.pdf?src-supplier=Future+Electronics; ComponentLink10URL: https://datasheet.octopart.com:443/ERA-3AEB473V-Panasonic-datasheet-10840895.pdf?src-supplier=Future+Electronics; ComponentLink10Description: https://datasheet.octopart.com:443/ERA-3AEB473V-Panasonic-datasheet-10840895.pdf?src-supplier=Future+Electronics; ComponentLink11URL: https://datasheet.octopart.com:443/ERA-3AEB473V-Panasonic-datasheet-5392808.pdf?src-supplier=Future+Electronics; ComponentLink11Description: https://datasheet.octopart.com:443/ERA-3AEB473V-Panasonic-datasheet-5392808.pdf?src-supplier=Future+Electronics; ComponentLink12URL: https://datasheet.octopart.com:443/ERA-3AEB473V-Panasonic-datasheet-46744048.pdf?src-supplier=RS+(Formerly+Allied+Electronics); ComponentLink12Description: https://datasheet.octopart.com:443/ERA-3AEB473V-Panasonic-datasheet-46744048.pdf?src-supplier=RS+(Formerly+Allied+Electronics); ComponentLink13URL: https://datasheet.octopart.com:443/ERA3AEB473V-Panasonic-datasheet-188913046.pdf?src-supplier=TME; ComponentLink13Description: https://datasheet.octopart.com:443/ERA3AEB473V-Panasonic-datasheet-188913046.pdf?src-supplier=TME; ComponentLink14URL: https://sigma.octopart.com:443/150570796/technical_drawing/Panasonic-ERA3AEB473V.pdf?src-supplier=Panasonic+SCT; ComponentLink14Description: https://sigma.octopart.com:443/150570796/technical_drawing/Panasonic-ERA3AEB473V.pdf?src-supplier=Panasonic+SCT; ComponentLink15URL: https://datasheet.octopart.com:443/ERA3AEB473V-Panasonic-datasheet-138783076.pdf?src-supplier=Burklin+Elektronik; ComponentLink15Description: https://datasheet.octopart.com:443/ERA3AEB473V-Panasonic-datasheet-138783076.pdf?src-supplier=Burklin+Elektronik; ComponentLink16URL: https://datasheet.octopart.com/ERA-3AEB473V-Panasonic-datasheet-78375410.pdf; ComponentLink16Description: https://datasheet.octopart.com/ERA-3AEB473V-Panasonic-datasheet-78375410.pdf; ComponentLink17URL: https://datasheet.octopart.com:443/ERA3AEB473V-Panasonic---ECG-datasheet-15994758.pdf?src-supplier=Farnell; ComponentLink17Description: https://datasheet.octopart.com:443/ERA3AEB473V-Panasonic---ECG-datasheet-15994758.pdf?src-supplier=Farnell; ComponentLink18URL: https://datasheet.octopart.com:443/ERA3AEB473V-Panasonic-datasheet-10050158.pdf?src-supplier=Arrow+Electronics; ComponentLink18Description: https://datasheet.octopart.com:443/ERA3AEB473V-Panasonic-datasheet-10050158.pdf?src-supplier=Arrow+Electronics; ComponentLink19URL: https://datasheet.octopart.com:443/ERA-3AEB473V-Panasonic-datasheet-33006989.pdf?src-supplier=Electro+Sonic; ComponentLink19Description: https://datasheet.octopart.com:443/ERA-3AEB473V-Panasonic-datasheet-33006989.pdf?src-supplier=Electro+Sonic; ComponentLink20URL: https://datasheet.octopart.com:443/ERA-3AEB472V-Panasonic-datasheet-138783076.pdf?src-supplier=Burklin+Elektronik; ComponentLink20Description: https://datasheet.octopart.com:443/ERA-3AEB472V-Panasonic-datasheet-138783076.pdf?src-supplier=Burklin+Elektronik; ComponentLink21URL: https://sigma.octopart.com:443/138766958/technical_drawing/Panasonic-ERA-3AEB472V.pdf?src-supplier=Upverter; ComponentLink21Description: https://sigma.octopart.com:443/138766958/technical_drawing/Panasonic-ERA-3AEB472V.pdf?src-supplier=Upverter; ComponentLink22URL: https://datasheet.octopart.com:443/ERA-3AEB472V-Panasonic-datasheet-62287448.pdf?src-supplier=Newark; ComponentLink22Description: https://datasheet.octopart.com:443/ERA-3AEB472V-Panasonic-datasheet-62287448.pdf?src-supplier=Newark; ComponentLink23URL: https://datasheet.octopart.com:443/ERA-3AEB472V-Panasonic-datasheet-8367715.pdf?src-supplier=Newark; ComponentLink23Description: https://datasheet.octopart.com:443/ERA-3AEB472V-Panasonic-datasheet-8367715.pdf?src-supplier=Newark; ComponentLink24URL: https://datasheet.octopart.com:443/ERA-3AEB472V-Panasonic-datasheet-136531316.pdf?src-supplier=Farnell; ComponentLink24Description: https://datasheet.octopart.com:443/ERA-3AEB472V-Panasonic-datasheet-136531316.pdf?src-supplier=Farnell; ComponentLink25URL: https://datasheet.octopart.com:443/ERA3AEB472V-Panasonic---ECG-datasheet-15994758.pdf?src-supplier=Farnell; ComponentLink25Description: https://datasheet.octopart.com:443/ERA3AEB472V-Panasonic---ECG-datasheet-15994758.pdf?src-supplier=Farnell; ComponentLink26URL: https://datasheet.octopart.com:443/ERA-3AEB472V-Panasonic-datasheet-13266200.pdf?src-supplier=_legacy+Avnet; ComponentLink26Description: https://datasheet.octopart.com:443/ERA-3AEB472V-Panasonic-datasheet-13266200.pdf?src-supplier=_legacy+Avnet; ComponentLink27URL: https://datasheet.octopart.com:443/ERA-3AEB472V-Panasonic-datasheet-10840895.pdf?src-supplier=Future+Electronics; ComponentLink27Description: https://datasheet.octopart.com:443/ERA-3AEB472V-Panasonic-datasheet-10840895.pdf?src-supplier=Future+Electronics; ComponentLink28URL: https://datasheet.octopart.com:443/ERA-3AEB472V-Panasonic-datasheet-12510007.pdf?src-supplier=Future+Electronics; ComponentLink28Description: https://datasheet.octopart.com:443/ERA-3AEB472V-Panasonic-datasheet-12510007.pdf?src-supplier=Future+Electronics; ComponentLink29URL: https://datasheet.octopart.com:443/ERA-3AEB472V-Panasonic-datasheet-11763931.pdf?src-supplier=Future+Electronics; ComponentLink29Description: https://datasheet.octopart.com:443/ERA-3AEB472V-Panasonic-datasheet-11763931.pdf?src-supplier=Future+Electronics; ComponentLink30URL: https://datasheet.octopart.com:443/ERA-3AEB472V-Panasonic-datasheet-5392808.pdf?src-supplier=Future+Electronics; ComponentLink30Description: https://datasheet.octopart.com:443/ERA-3AEB472V-Panasonic-datasheet-5392808.pdf?src-supplier=Future+Electronics; ComponentLink31URL: https://datasheet.octopart.com:443/ERA-3AEB472V-Panasonic-datasheet-61114971.pdf?src-supplier=Future+Electronics; ComponentLink31Description: https://datasheet.octopart.com:443/ERA-3AEB472V-Panasonic-datasheet-61114971.pdf?src-supplier=Future+Electronics; ComponentLink32URL: https://datasheet.octopart.com:443/ERA-3AEB472V-Panasonic-datasheet-118567.pdf?src-supplier=element14; ComponentLink32Description: https://datasheet.octopart.com:443/ERA-3AEB472V-Panasonic-datasheet-118567.pdf?src-supplier=element14; ComponentLink33URL: https://datasheet.octopart.com:443/ERA-3AEB472V-Panasonic-datasheet-154766165.pdf?src-supplier=Master+Electronics; ComponentLink33Description: https://datasheet.octopart.com:443/ERA-3AEB472V-Panasonic-datasheet-154766165.pdf?src-supplier=Master+Electronics; ComponentLink34URL: https://datasheet.octopart.com:443/ERA-3AEB472V-Panasonic-datasheet-46744048.pdf?src-supplier=RS+(Formerly+Allied+Electronics); ComponentLink34Description: https://datasheet.octopart.com:443/ERA-3AEB472V-Panasonic-datasheet-46744048.pdf?src-supplier=RS+(Formerly+Allied+Electronics); ComponentLink35URL: https://datasheet.octopart.com:443/ERA3AEB472V-Panasonic-datasheet-188913046.pdf?src-supplier=TME; ComponentLink35Description: https://datasheet.octopart.com:443/ERA3AEB472V-Panasonic-datasheet-188913046.pdf?src-supplier=TME; ComponentLink36URL: https://sigma.octopart.com:443/150570796/technical_drawing/Panasonic-ERA3AEB472V.pdf?src-supplier=Panasonic+SCT; ComponentLink36Description: https://sigma.octopart.com:443/150570796/technical_drawing/Panasonic-ERA3AEB472V.pdf?src-supplier=Panasonic+SCT; ComponentLink37URL: https://datasheet.octopart.com/ERA-3AEB472V-Panasonic-datasheet-78375410.pdf; ComponentLink37Description: https://datasheet.octopart.com/ERA-3AEB472V-Panasonic-datasheet-78375410.pdf; ComponentLink38URL: https://datasheet.octopart.com:443/ERA-3AEB472V-Panasonic-datasheet-33006989.pdf?src-supplier=Electro+Sonic; ComponentLink38Description: https://datasheet.octopart.com:443/ERA-3AEB472V-Panasonic-datasheet-33006989.pdf?src-supplier=Electro+Sonic
footprint RES 0603
pins: 1, 2